# EAGLE library part 386SX (library intel)
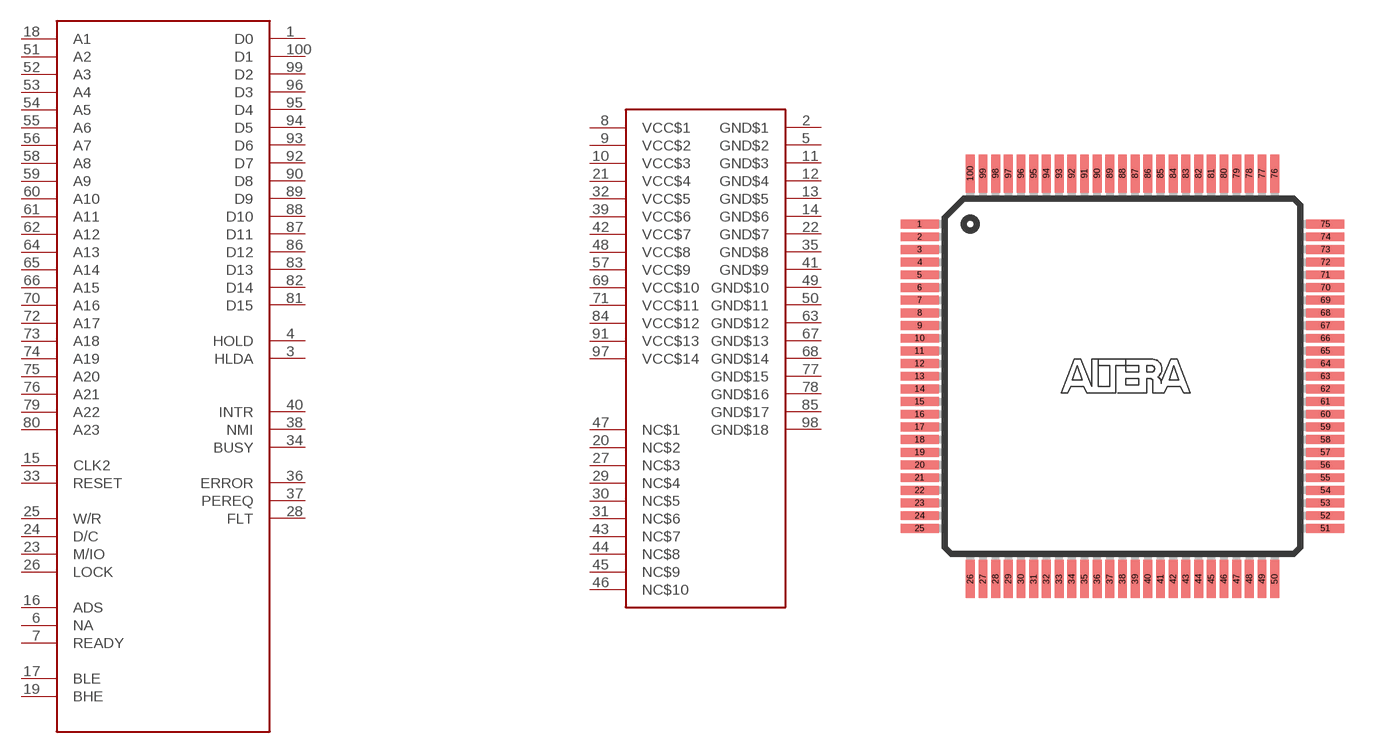
[diagram p0: symbol with the pads of TQFP100; footprint TQFP100]

Designator prefix -

## 386SX  [TQFP100]
1  D0
2  GND$1
3  HLDA
4  HOLD
5  GND$2
6  NA
7  READY
8  VCC$1
9  VCC$2
10  VCC$3
11  GND$3
12  GND$4
13  GND$5
14  GND$6
15  CLK2
16  ADS
17  BLE
18  A1
19  BHE
20  NC$2
21  VCC$4
22  GND$7
23  M/IO
24  D/C
25  W/R
26  LOCK
27  NC$3
28  FLT
29  NC$4
30  NC$5
31  NC$6
32  VCC$5
33  RESET
34  BUSY
35  GND$8
36  ERROR
37  PEREQ
38  NMI
39  VCC$6
40  INTR
41  GND$9
42  VCC$7
43  NC$7
44  NC$8
45  NC$9
46  NC$10
47  NC$1
48  VCC$8
49  GND$10
50  GND$11
51  A2
52  A3
53  A4
54  A5
55  A6
56  A7
57  VCC$9
58  A8
59  A9
60  A10
61  A11
62  A12
63  GND$12
64  A13
65  A14
66  A15
67  GND$13
68  GND$14
69  VCC$10
70  A16
71  VCC$11
72  A17
73  A18
74  A19
75  A20
76  A21
77  GND$15
78  GND$16
79  A22
80  A23
81  D15
82  D14
83  D13
84  VCC$12
85  GND$17
86  D12
87  D11
88  D10
89  D9
90  D8
91  VCC$13
92  D7
93  D6
94  D5
95  D4
96  D3
97  VCC$14
98  GND$18
99  D2
100  D1

## Footprint TQFP100 (pad centres in mm)
Plastic Thin Quad Flat Pack
smd 1.5 x 0.35: 1 -8,6; 2 -8,5.5; 3 -8,5; 4 -8,4.5; 5 -8,4; 6 -8,3.5; 7 -8,3; 8 -8,2.5; 9 -8,2; 10 -8,1.5; 11 -8,1; 12 -8,0.5; 13 -8,0; 14 -8,-0.5; 15 -8,-1; 16 -8,-1.5; 17 -8,-2; 18 -8,-2.5; 19 -8,-3; 20 -8,-3.5; 21 -8,-4; 22 -8,-4.5; 23 -8,-5; 24 -8,-5.5; 25 -8,-6; 51 8,-6; 52 8,-5.5; 53 8,-5; 54 8,-4.5; 55 8,-4; 56 8,-3.5; 57 8,-3; 58 8,-2.5; 59 8,-2; 60 8,-1.5; 61 8,-1; 62 8,-0.5; 63 8,0; 64 8,0.5; 65 8,1; 66 8,1.5; 67 8,2; 68 8,2.5; 69 8,3; 70 8,3.5; 71 8,4; 72 8,4.5; 73 8,5; 74 8,5.5; 75 8,6
smd 0.35 x 1.5: 26 -6,-8; 27 -5.5,-8; 28 -5,-8; 29 -4.5,-8; 30 -4,-8; 31 -3.5,-8; 32 -3,-8; 33 -2.5,-8; 34 -2,-8; 35 -1.5,-8; 36 -1,-8; 37 -0.5,-8; 38 0,-8; 39 0.5,-8; 40 1,-8; 41 1.5,-8; 42 2,-8; 43 2.5,-8; 44 3,-8; 45 3.5,-8; 46 4,-8; 47 4.5,-8; 48 5,-8; 49 5.5,-8; 50 6,-8; 76 6,8; 77 5.5,8; 78 5,8; 79 4.5,8; 80 4,8; 81 3.5,8; 82 3,8; 83 2.5,8; 84 2,8; 85 1.5,8; 86 1,8; 87 0.5,8; 88 0,8; 89 -0.5,8; 90 -1,8; 91 -1.5,8; 92 -2,8; 93 -2.5,8; 94 -3,8; 95 -3.5,8; 96 -4,8; 97 -4.5,8; 98 -5,8; 99 -5.5,8; 100 -6,8